# EAGLE library part AUK_MICROSD (library LITTLEBITS140826)
AUK TFC08WP01-R1K-H Micro SD Card Slot.
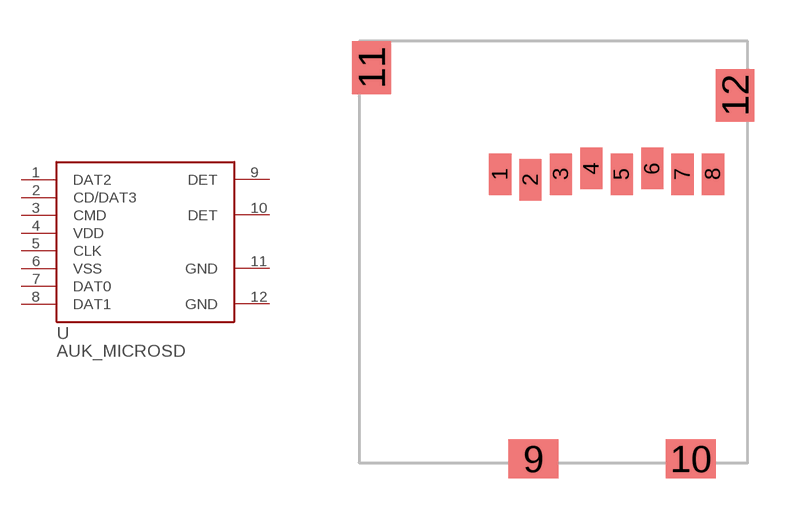
[diagram p56: symbol with the pads of AUK_TFC08WP01-R1K-H; footprint AUK_TFC08WP01-R1K-H]

Designator prefix -

## AUK_MICROSD  [AUK_TFC08WP01-R1K-H]
1  DAT2
2  CD/DAT3
3  CMD
4  VDD
5  CLK
6  VSS
7  DAT0
8  DAT1
9  DET
10  DET
11  GND
12  GND

## Footprint AUK_TFC08WP01-R1K-H (pad centres in mm)
smd 0.8 x 1.5: 1 -1.2,10.3; 2 -0.1,10.1; 3 1,10.3; 4 2.1,10.5; 5 3.2,10.3; 6 4.3,10.5; 7 5.4,10.3; 8 6.5,10.3
smd 1.8 x 1.4: 9 0,0; 10 5.7,0
smd 1.4 x 1.9: 11 -5.85,14.15; 12 7.3,13.15